# EAGLE library part TUSB4041 (library Roboracing)
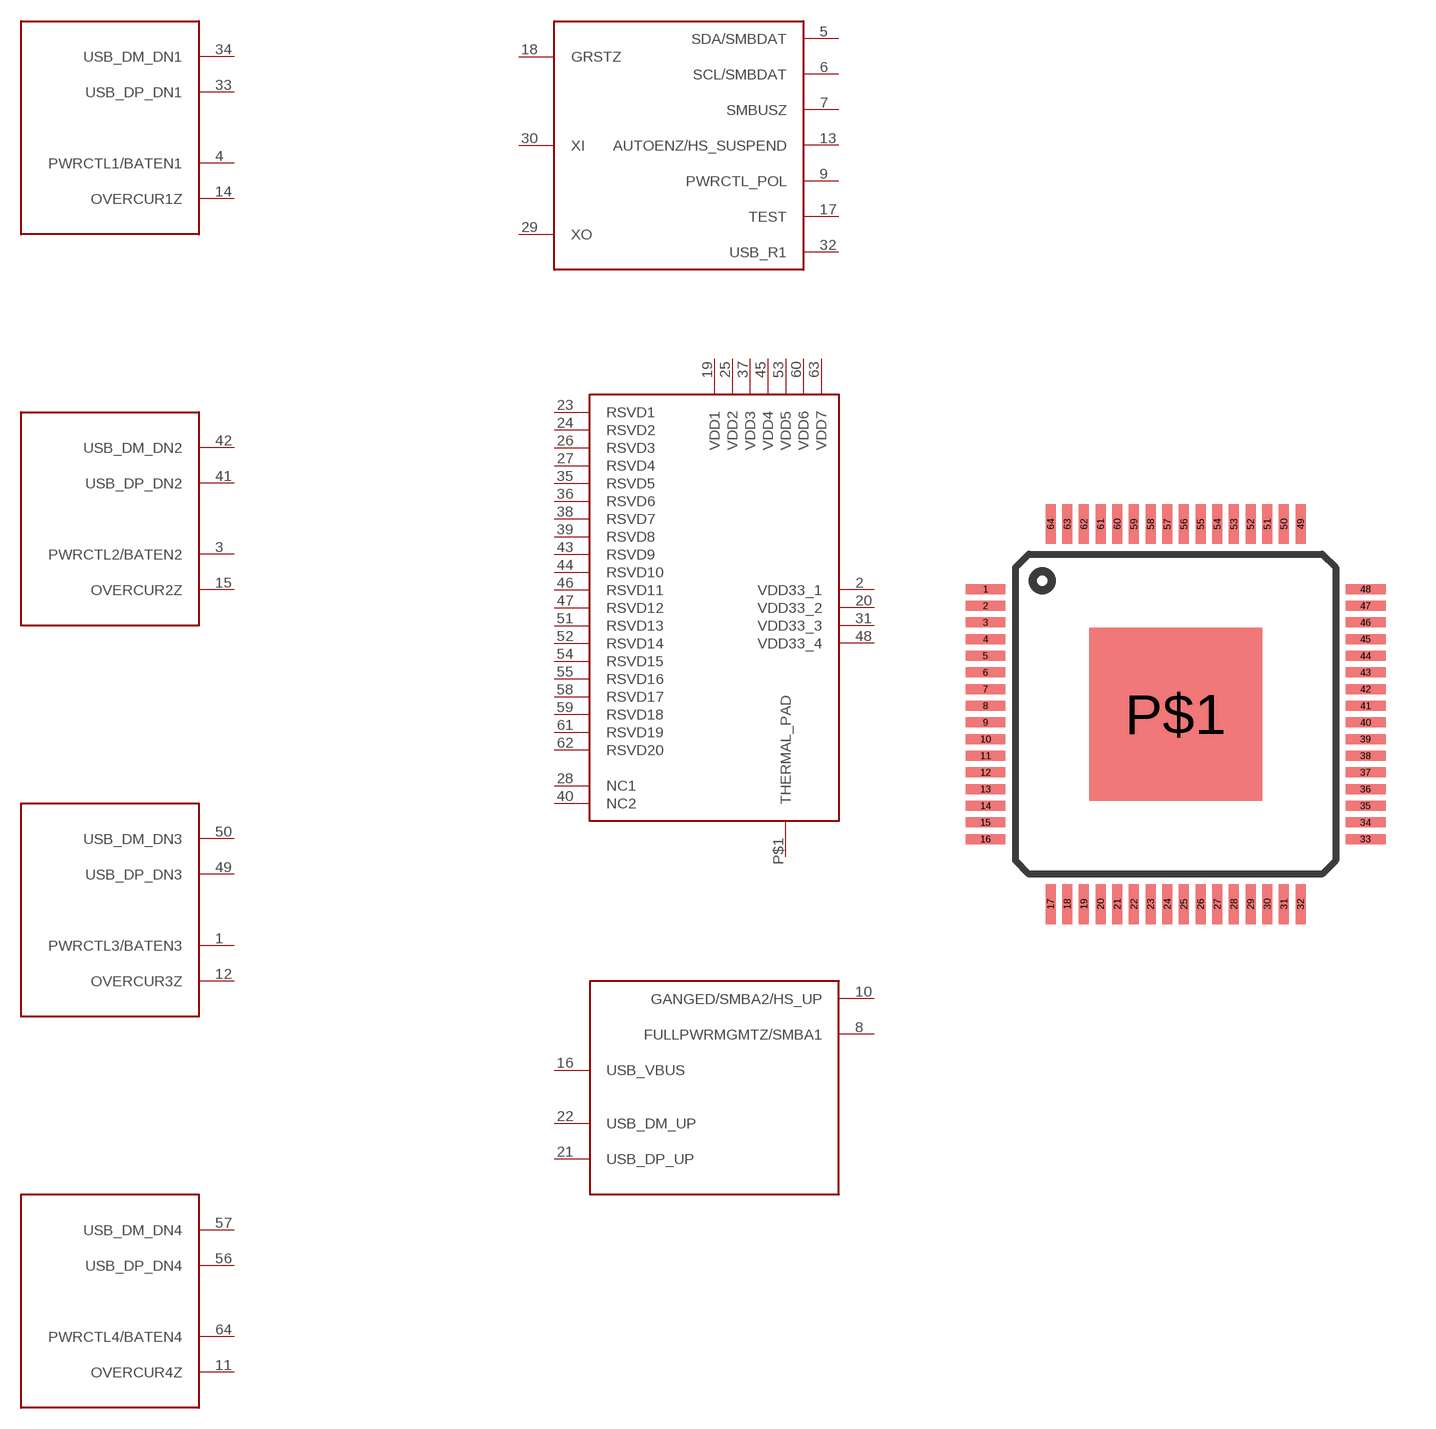
[diagram p10: symbol with the pads of TQFP64-10X10; footprint TQFP64-10X10]

Designator prefix -; gates G$1=TUSB4041IPAPRQ1_DOWN G$2=TUSB4041IPAPRQ1_CLKMIS G$3=TUSB4041IPAPRQ1_PWR G$4=TUSB4041IPAPRQ1_UP

## TUSB4041  [TQFP64-10X10]
1  G$1:PWRCTL3/BATEN3
2  G$3:VDD33_1
3  G$1:PWRCTL2/BATEN2
4  G$1:PWRCTL1/BATEN1
5  G$2:SDA/SMBDAT
6  G$2:SCL/SMBDAT
7  G$2:SMBUSZ
8  G$4:FULLPWRMGMTZ/SMBA1
9  G$2:PWRCTL_POL
10  G$4:GANGED/SMBA2/HS_UP
11  G$1:OVERCUR4Z
12  G$1:OVERCUR3Z
13  G$2:AUTOENZ/HS_SUSPEND
14  G$1:OVERCUR1Z
15  G$1:OVERCUR2Z
16  G$4:USB_VBUS
17  G$2:TEST
18  G$2:GRSTZ
19  G$3:VDD1
20  G$3:VDD33_2
21  G$4:USB_DP_UP
22  G$4:USB_DM_UP
23  G$3:RSVD1
24  G$3:RSVD2
25  G$3:VDD2
26  G$3:RSVD3
27  G$3:RSVD4
28  G$3:NC1
29  G$2:XO
30  G$2:XI
31  G$3:VDD33_3
32  G$2:USB_R1
33  G$1:USB_DP_DN1
34  G$1:USB_DM_DN1
35  G$3:RSVD5
36  G$3:RSVD6
37  G$3:VDD3
38  G$3:RSVD7
39  G$3:RSVD8
40  G$3:NC2
41  G$1:USB_DP_DN2
42  G$1:USB_DM_DN2
43  G$3:RSVD9
44  G$3:RSVD10
45  G$3:VDD4
46  G$3:RSVD11
47  G$3:RSVD12
48  G$3:VDD33_4
49  G$1:USB_DP_DN3
50  G$1:USB_DM_DN3
51  G$3:RSVD13
52  G$3:RSVD14
53  G$3:VDD5
54  G$3:RSVD15
55  G$3:RSVD16
56  G$1:USB_DP_DN4
57  G$1:USB_DM_DN4
58  G$3:RSVD17
59  G$3:RSVD18
60  G$3:VDD6
61  G$3:RSVD19
62  G$3:RSVD20
63  G$3:VDD7
64  G$1:PWRCTL4/BATEN4
P$1  G$3:THERMAL_PAD

## Footprint TQFP64-10X10 (pad centres in mm)
Thin Quad Flat Pack package type TQ
smd 1.2 x 0.3: 1 -5.7,3.75; 2 -5.7,3.25; 3 -5.7,2.75; 4 -5.7,2.25; 5 -5.7,1.75; 6 -5.7,1.25; 7 -5.7,0.75; 8 -5.7,0.25; 9 -5.7,-0.25; 10 -5.7,-0.75; 11 -5.7,-1.25; 12 -5.7,-1.75; 13 -5.7,-2.25; 14 -5.7,-2.75; 15 -5.7,-3.25; 16 -5.7,-3.75; 33 5.7,-3.75; 34 5.7,-3.25; 35 5.7,-2.75; 36 5.7,-2.25; 37 5.7,-1.75; 38 5.7,-1.25; 39 5.7,-0.75; 40 5.7,-0.25; 41 5.7,0.25; 42 5.7,0.75; 43 5.7,1.25; 44 5.7,1.75; 45 5.7,2.25; 46 5.7,2.75; 47 5.7,3.25; 48 5.7,3.75
smd 0.3 x 1.2: 17 -3.75,-5.7; 18 -3.25,-5.7; 19 -2.75,-5.7; 20 -2.25,-5.7; 21 -1.75,-5.7; 22 -1.25,-5.7; 23 -0.75,-5.7; 24 -0.25,-5.7; 25 0.25,-5.7; 26 0.75,-5.7; 27 1.25,-5.7; 28 1.75,-5.7; 29 2.25,-5.7; 30 2.75,-5.7; 31 3.25,-5.7; 32 3.75,-5.7; 49 3.75,5.7; 50 3.25,5.7; 51 2.75,5.7; 52 2.25,5.7; 53 1.75,5.7; 54 1.25,5.7; 55 0.75,5.7; 56 0.25,5.7; 57 -0.25,5.7; 58 -0.75,5.7; 59 -1.25,5.7; 60 -1.75,5.7; 61 -2.25,5.7; 62 -2.75,5.7; 63 -3.25,5.7; 64 -3.75,5.7
smd 5.19 x 5.19: P$1 0,0